# Altium schematic symbol library LED,Tri-Color,RGB,Thru,CA.Schlib: 1 symbol
Pins are listed as number, name and electrical type; pins without a type are passive.

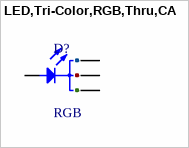
[diagram p0: symbol LED,Tri-Color,RGB,Thru,CA]

## LED,Tri-Color,RGB,Thru,CA
designator D?, comment RGB
Red, Green, Blue (RGB) 624nm Red, 525nm Green, 470nm Blue LED Indication - Discrete 2V Red, 3.2V Green, 3.2V Blue Radial
pins: 1 G, 2 B, 3 K, 4 R